# EAGLE library part PUSHBUTTON (library EE445L)
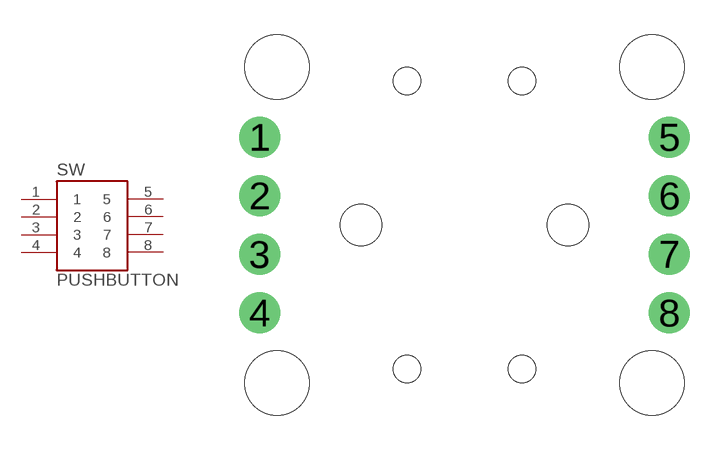
[diagram p49: symbol with the pads of PWRBUTTON; footprint PWRBUTTON]

Designator prefix SW

## PUSHBUTTON  [PWRBUTTON]
1  1  in
2  2  out
3  3  sup
4  4  in
5  5  in
6  6  out
7  7  sup
8  8  in

## Footprint PWRBUTTON (pad centres in mm)
drill 1.016 pad 1.778: 1 1.27,12.7; 2 1.27,10.16; 3 1.27,7.62; 4 1.27,5.08; 5 19.05,12.7; 6 19.05,10.16; 7 19.05,7.62; 8 19.05,5.08
hole 2.8 at 2.032,15.748
hole 2.8 at 2.032,2.032
hole 2.8 at 18.288,15.748
hole 2.8 at 18.288,2.032
hole 1.803 at 14.656,8.89
hole 1.803 at 5.664,8.89
hole 1.194 at 12.649,15.138
hole 1.194 at 7.671,15.138
hole 1.194 at 7.671,2.642
hole 1.194 at 12.649,2.642